# Altium footprint library FRM3-X17_STM32 Range Finder Board.PcbLib: 26 footprints (part 1 of 2)
Each footprint in its own frame and in the unit in brackets; x right, y up, seen from the top. Pads: shape width x height; smd on the part's side, far side on the other; paste and mask are expansions set on the pad; w line width, h text height; cw(c..) or ccw(c..) is an arc to the next point about the centre after c.
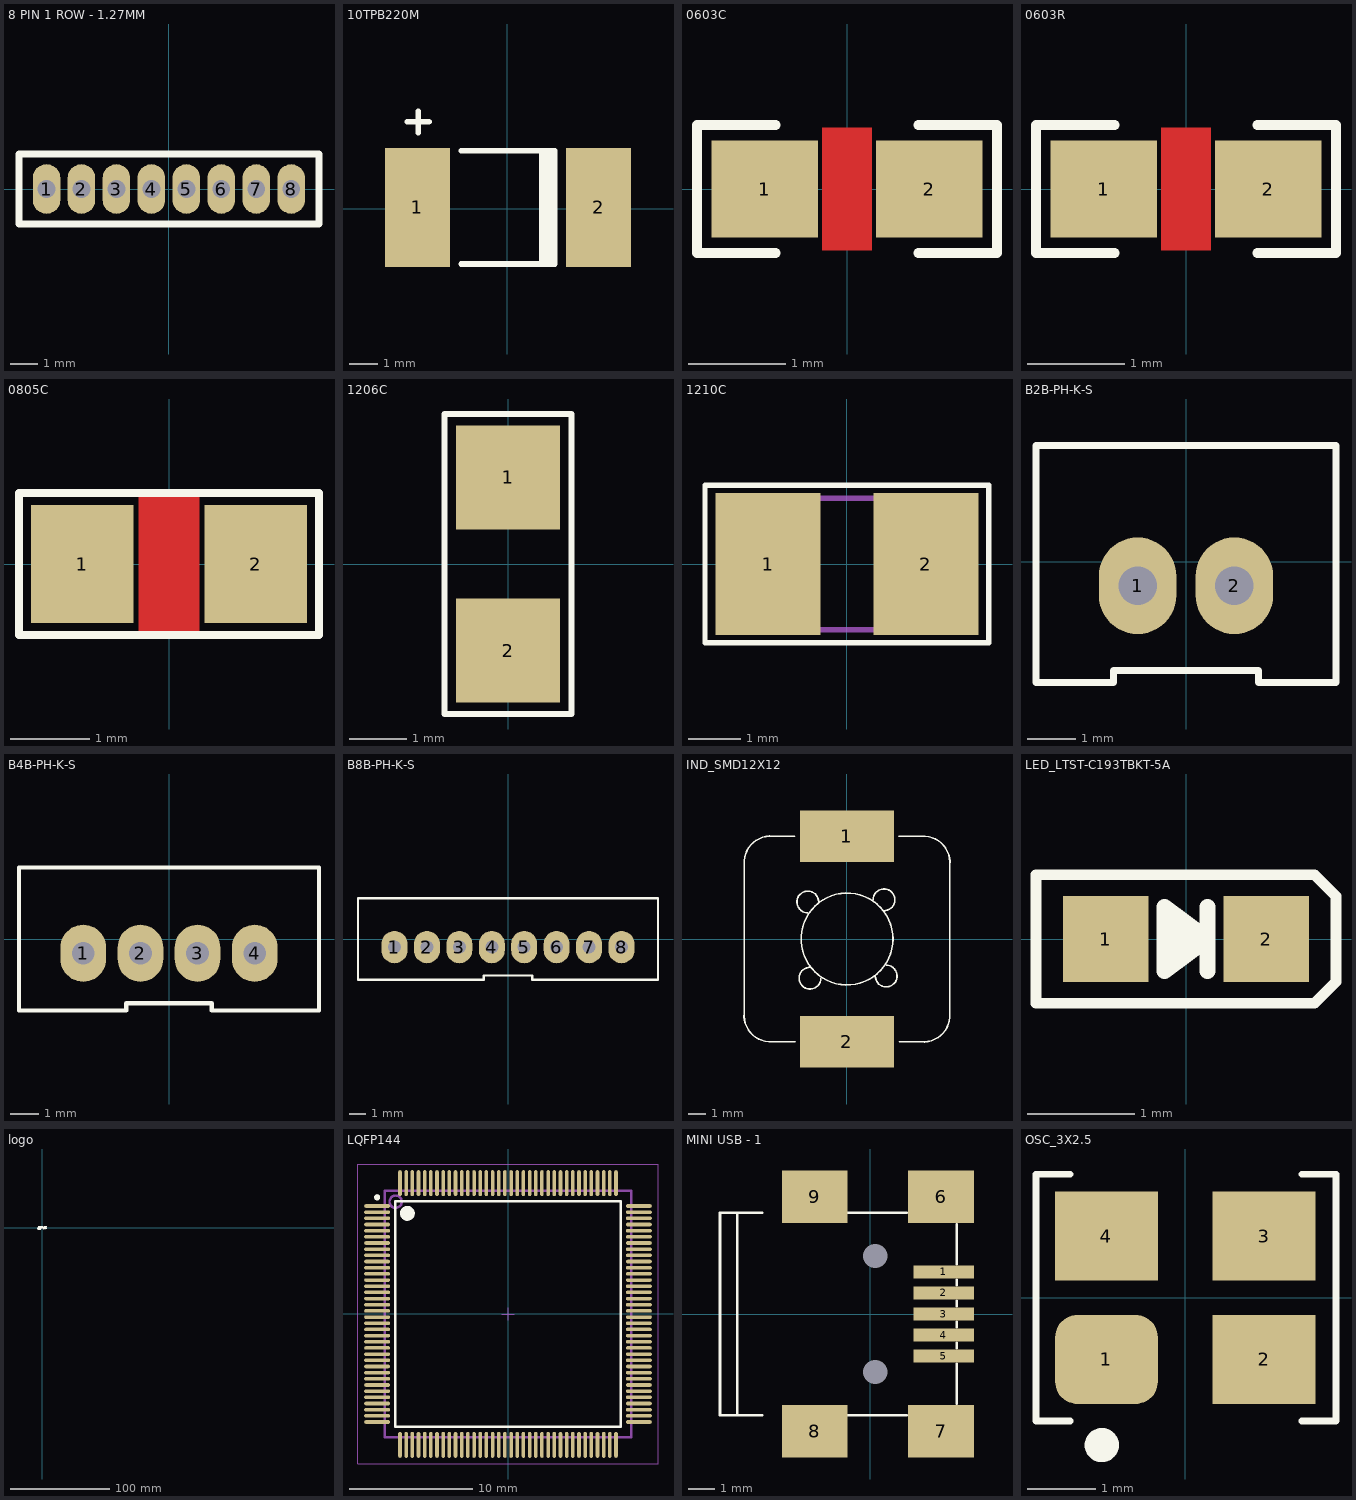
[diagram p0: the footprints below, top view; thin cyan lines are the x and y axes]

## 8 PIN 1 ROW - 1.27MM [mm]
pads (8):
  oval 1x1.8 hole 0.65: 1(-4.445,0) 2(-3.175,0) 3(-1.905,0) 4(-0.635,0) 5(0.635,0) 6(1.905,0) 7(3.175,0) 8(4.445,0)
Top Overlay:
  lines w0.254: -5.445,-1.27 -5.445,1.27 5.455,1.27 5.455,-1.27 -5.445,-1.27

## 10TPB220M [mm]
pads (2):
  rect 2.3x4.2 smd: 1(-3.175,0.051) 2(3.225,0.051)
Top Overlay:
  region: 1.675,2.051 1.125,2.051 1.125,-1.949 1.675,-1.949
  lines w0.2: -3.529,3.073 -2.767,3.073 ; -3.148,2.692 -3.148,3.454 ; -1.625,-1.949 1.675,-1.949 1.675,2.051 -1.625,2.051
3D body "CaseX_7343-43.STEP": height 4, standoff 0, extent -3.65,-2.1 3.65,2.2

## 0603C [mm]
pads (2):
  rect 1.1x1 smd: 1(-0.85,0) 2(0.85,0)
Top Layer:
  pour cut-out: -0.254,0.635 0.254,0.635 0.254,-0.635 -0.254,-0.635
Top Overlay:
  lines w0.1: -0.737,-0.66 -1.549,-0.66 -1.549,0 -1.549,0.66 -0.737,0.66 ; 0.737,-0.66 1.549,-0.66 1.549,0 1.549,0.66 0.737,0.66
3D body "User Library-0603(1608M) Cap (1).step": height 0.79, standoff 0, extent -1,-0.394 1,0.394

## 0603R [mm]
pads (2):
  rect 1.1x1 smd: 1(-0.85,0) 2(0.85,0)
Top Layer:
  pour cut-out: -0.254,-0.635 0.254,-0.635 0.254,0.635 -0.254,0.635
Top Overlay:
  lines w0.1: -0.737,-0.66 -1.549,-0.66 -1.549,0 -1.549,0.66 -0.737,0.66 ; 0.737,-0.66 1.549,-0.66 1.549,0 1.549,0.66 0.737,0.66
3D body "User Library-TNPW0603.STEP": height 0.45, standoff 0, extent -0.8,-0.425 0.8,0.425

## 0805C [mil]
pads (2):
  rect 51x59 smd: 1(-43.31,0) 2(43.31,0)
Top Layer:
  pour cut-out: 15,35 15,-35 -15,-35 -15,35
Top Overlay:
  lines w3.94: -74.8,-35.43 -74.8,35.43 74.8,35.43 74.8,-35.43 -74.8,-35.43
3D body "SW3dPS-0805 SMD Capacitor.STEP": height 30.79, standoff 0, extent -39.38,-24.61 39.36,24.6

## 1206C [mm]
pads (2):
  rect 1.8x1.8 smd: 1(0,1.5) 2(0,-1.5)
Top Overlay:
  lines w0.1: -1.1,-2.6 1.1,-2.6 1.1,2.6 -1.1,2.6 -1.1,-2.6
3D body "User Library-Capacitor Vishay 1206 X7R.step": height 1.7, standoff 0, extent -0.85,-1.6 0.85,1.6

## 1210C [mm]
pads (2):
  rect 2x2.7 smd: 1(-1.5,0) 2(1.5,0)
Top Overlay:
  lines w0.1: -2.7,-1.499 -2.7,1.499 2.692,1.499 2.692,-1.499 -2.7,-1.499
Mechanical 13:
  lines w0.1: -1.6,-1.25 1.6,-1.25 1.6,1.25 -1.6,1.25 -1.6,-1.25
3D body "SW3dPS-CAPC3225(1210).STEP": height 2.5, standoff 0, extent -1.6,-1.25 1.6,1.25

## B2B-PH-K-S [mm]
pads (2):
  oval 1.6x2 hole 0.8: 1(-1,-0.5) 2(1,-0.5)
Top Overlay:
  lines w0.15: -3.1,-2.5 -3.1,2.4 3.1,2.4 3.1,-2.5 1.5,-2.5 1.5,-2.25 -1.5,-2.25 -1.5,-2.5 -3.1,-2.5
3D body "User Library-b2b-ph-ks-1.x_t": height 6, standoff -3, extent -2.95,-2.25 2.95,2.25

## B4B-PH-K-S [mm]
pads (4):
  oval 1.6x2 hole 0.8: 1(-3,-0.5) 2(-1,-0.5) 3(1,-0.5) 4(3,-0.5)
Top Overlay:
  lines w0.15: -5.25,-2.5 -5.25,2.5 5.25,2.5 5.25,-2.5 1.5,-2.5 1.5,-2.25 -1.5,-2.25 -1.5,-2.5 -5.25,-2.5
3D body "User Library-b4b-ph-k-s.x_t": height 6, standoff -3, extent -4.95,-2.25 4.95,2.25

## B8B-PH-K-S [mm]
pads (8):
  oval 1.6x2 hole 0.8: 1(-7,-0.5) 2(-5,-0.5) 3(-3,-0.5) 4(-1,-0.5) 5(1,-0.5) 6(3,-0.5) 7(5,-0.5) 8(7,-0.5)
Top Overlay:
  lines w0.15: -9.25,-2.5 -9.25,2.5 9.25,2.5 9.25,-2.5 1.5,-2.5 1.5,-2.25 -1.5,-2.25 -1.5,-2.5 -9.25,-2.5
3D body "User Library-b8b-ph-ks.x_t": height 6, standoff -3, extent -8.95,-2.25 8.95,2.25

## IND_SMD12X12 [mm]
pads (2):
  rect 5.5x3 smd: 1(0,6) 2(0,-6)
Top Overlay:
  circle w0.1: c0,0 r2.679
  lines w0.1: -3.048,6 -4.318,6 ccw(c-4.445,4.445) -6,4.572 -6,-4.318 ccw(c-4.445,-4.445) -4.572,-6 -3.017,-6 ; -2.286,1.524 cw(c-2.286,2.159) -1.651,2.159 ; -2.159,-1.651 ccw(c-2.159,-2.286) -1.524,-2.286 ; 1.524,2.286 cw(c2.159,2.286) 2.159,1.651 ; 1.651,-2.159 ccw(c2.286,-2.159) 2.286,-1.524 ; 3.017,6 4.572,6 cw(c4.445,4.445) 6,4.318 6,-4.572 cw(c4.445,-4.445) 4.318,-6 3.048,-6
3D body "IND 12x12.STEP": height 6.8, standoff 0.1, extent -6.25,-6.262 6.25,6.238

## LED_LTST-C193TBKT-5A [mm] "0603 Blue LED"
pads (2):
  rect 0.8x0.8 smd: 1(-0.75,0) 2(0.75,0)
Top Overlay:
  lines w0.1: -1.4,-0.6 1.2,-0.6 1.4,-0.4 1.4,0.1 1.4,0.4 1.2,0.6 -1.4,0.6 -1.4,-0.6
  lines w0.15: -0.1,0.225 0,-0.15 ; 0.2,-0.3 0.2,0.3 ; -0.2,-0.3 0.2,0 ; -0.2,-0.3 -0.2,0.3 0.2,0 ; -0.2,-0.3 -0.05,0.038 0.2,0
3D body "User Library-LTST-C193TBKT.x_t": height 0.35, standoff 0, extent -0.79,-0.4 0.8,0.4

## logo [mm]
Top Overlay:
  drawing of 600 lines, arcs and shapes, not listed

## LQFP144 [mm] "144-Pin Thin Quad Flat Pack (TQG144) - Pb-Free, IPC Low Density"
height 1.6
pads (144):
  oval 2.1x0.29 smd: 1(-10.6,8.75) 2(-10.6,8.25) 3(-10.6,7.75) 4(-10.6,7.25) 5(-10.6,6.75) 6(-10.6,6.25) 7(-10.6,5.75) 8(-10.6,5.25) 9(-10.6,4.75) 10(-10.6,4.25) 11(-10.6,3.75) 12(-10.6,3.25) 13(-10.6,2.75) 14(-10.6,2.25) 15(-10.6,1.75) 16(-10.6,1.25) 17(-10.6,0.75) 18(-10.6,0.25) 19(-10.6,-0.25) 20(-10.6,-0.75) 21(-10.6,-1.25) 22(-10.6,-1.75) 23(-10.6,-2.25) 24(-10.6,-2.75) 25(-10.6,-3.25) 26(-10.6,-3.75) 27(-10.6,-4.25) 28(-10.6,-4.75) 29(-10.6,-5.25) 30(-10.6,-5.75) 31(-10.6,-6.25) 32(-10.6,-6.75) 33(-10.6,-7.25) 34(-10.6,-7.75) 35(-10.6,-8.25) 36(-10.6,-8.75) 73(10.6,-8.75) 74(10.6,-8.25) 75(10.6,-7.75) 76(10.6,-7.25) 77(10.6,-6.75) 78(10.6,-6.25) 79(10.6,-5.75) 80(10.6,-5.25) 81(10.6,-4.75) 82(10.6,-4.25) 83(10.6,-3.75) 84(10.6,-3.25) 85(10.6,-2.75) 86(10.6,-2.25) 87(10.6,-1.75) 88(10.6,-1.25) 89(10.6,-0.75) 90(10.6,-0.25) 91(10.6,0.25) 92(10.6,0.75) 93(10.6,1.25) 94(10.6,1.75) 95(10.6,2.25) 96(10.6,2.75) 97(10.6,3.25) 98(10.6,3.75) 99(10.6,4.25) 100(10.6,4.75) 101(10.6,5.25) 102(10.6,5.75) 103(10.6,6.25) 104(10.6,6.75) 105(10.6,7.25) 106(10.6,7.75) 107(10.6,8.25) 108(10.6,8.75)
  oval 0.29x2.1 smd: 37(-8.75,-10.6) 38(-8.25,-10.6) 39(-7.75,-10.6) 40(-7.25,-10.6) 41(-6.75,-10.6) 42(-6.25,-10.6) 43(-5.75,-10.6) 44(-5.25,-10.6) 45(-4.75,-10.6) 46(-4.25,-10.6) 47(-3.75,-10.6) 48(-3.25,-10.6) 49(-2.75,-10.6) 50(-2.25,-10.6) 51(-1.75,-10.6) 52(-1.25,-10.6) 53(-0.75,-10.6) 54(-0.25,-10.6) 55(0.25,-10.6) 56(0.75,-10.6) 57(1.25,-10.6) 58(1.75,-10.6) 59(2.25,-10.6) 60(2.75,-10.6) 61(3.25,-10.6) 62(3.75,-10.6) 63(4.25,-10.6) 64(4.75,-10.6) 65(5.25,-10.6) 66(5.75,-10.6) 67(6.25,-10.6) 68(6.75,-10.6) 69(7.25,-10.6) 70(7.75,-10.6) 71(8.25,-10.6) 72(8.75,-10.6) 109(8.75,10.6) 110(8.25,10.6) 111(7.75,10.6) 112(7.25,10.6) 113(6.75,10.6) 114(6.25,10.6) 115(5.75,10.6) 116(5.25,10.6) 117(4.75,10.6) 118(4.25,10.6) 119(3.75,10.6) 120(3.25,10.6) 121(2.75,10.6) 122(2.25,10.6) 123(1.75,10.6) 124(1.25,10.6) 125(0.75,10.6) 126(0.25,10.6) 127(-0.25,10.6) 128(-0.75,10.6) 129(-1.25,10.6) 130(-1.75,10.6) 131(-2.25,10.6) 132(-2.75,10.6) 133(-3.25,10.6) 134(-3.75,10.6) 135(-4.25,10.6) 136(-4.75,10.6) 137(-5.25,10.6) 138(-5.75,10.6) 139(-6.25,10.6) 140(-6.75,10.6) 141(-7.25,10.6) 142(-7.75,10.6) 143(-8.25,10.6) 144(-8.75,10.6)
Top Overlay:
  circle w0.25: c-10.6,9.45 r0.125
  circle w0.6: c-8.15,8.15 r0.3
  lines w0.2: -9.15,-9.15 -9.15,9.15 9.15,9.15 9.15,-9.15 -9.15,-9.15
Mechanical 13:
  circle w0.2: c-9.1,9.1 r0.5
  lines w0.2: -10,-10 -10,10 10,10 10,-10 -10,-10
Mechanical 15:
  lines w0.1: -0.5,0 0.5,0 ; 0,-0.5 0,0.5 ; -12.15,-12.15 -12.15,12.15 12.15,12.15 12.15,-12.15 -12.15,-12.15
3D body "XILINX TQG144.STEP": height 1.6, standoff -0.15, extent -11,-11 11,11

## MINI USB - 1 [mil]
pads (11):
  rect 90.6x19.7 smd: 1(110.25,63) 2(110.25,31.5) 3(110.25,0) 4(110.25,-31.5) 5(110.25,-63)
  rect 98.4x78.7 smd: 6(106.26,175.2) 7(106.26,-175.2) 8(-82.68,-175.2) 9(-82.68,175.2)
  round 3.9 hole 36: 10(7.85,-86.6) 11(7.85,86.6)
Top Overlay:
  lines w3.9: -198.85,-151.6 -198.85,151.6 ; -161.45,-151.6 -224.45,-151.6 -224.45,151.6 -161.45,151.6 ; -59.05,-151.6 55.05,-151.6 ; -59.05,151.6 55.05,151.6 ; 129.45,-133.9 129.45,-74.8 ; 129.85,-51.2 129.85,-43.3 ; 129.85,-19.7 129.85,-11.8 ; 129.85,11.8 129.85,19.7 ; 129.85,43.3 129.85,51.2 ; 129.85,74.8 129.85,133.9
3D body "usb_a-usb_b-m5-smd-c.stp": height 154.72, standoff -39.37, extent -224.5,-188.88 139.67,200.89

## OSC_3X2.5 [mm]
pads (4):
  rrect50% 1.5x1.3 smd mask+0.15: 1(-1.15,-0.9)
  rect 1.5x1.3 smd mask+0.15: 2(1.15,-0.9) 3(1.15,0.9) 4(-1.15,0.9)
Top Overlay:
  circle w0.25: c-1.218,-2.151 r0.125
  lines w0.1: -1.679,-1.798 -2.179,-1.798 -2.179,1.802 -1.679,1.802 ; 1.7,-1.798 2.2,-1.798 2.2,1.802 1.7,1.802
3D body "Crystal TXC Corp 7M series.STEP": height 0.8, standoff 0, extent -1.65,-1.3 1.65,1.3